# EAGLE library part SMD-MOSFET-DUAL-P-CH-20V-2.2A(SOT-23-6) (library Seeed-OPL-Transistor)
305040004
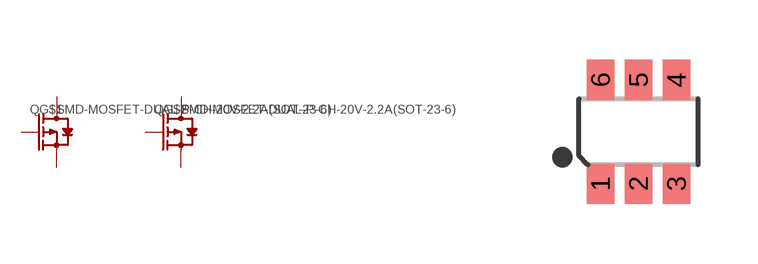
[diagram p1: symbol with the pads of SOT-23-6; footprint SOT-23-6]

Designator prefix Q; gates G$1=MOSFET-P G$2=MOSFET-P

## SMD-MOSFET-DUAL-P-CH-20V-2.2A(SOT-23-6) (MPN: IRF5850)  [SOT-23-6]
1  G$1:G  pas
2  G$2:S  pas
3  G$2:G  pas
4  G$2:D  pas
5  G$1:S  pas
6  G$1:D  pas

## Footprint SOT-23-6 (pad centres in mm)
smd 0.69 x 1: 1 -0.95,-1.3; 2 0,-1.3; 3 0.95,-1.3; 4 0.95,1.3; 5 0,1.3; 6 -0.95,1.3